# Altium schematic symbol library SN74LS189N.SchLib: 1 symbol
Pins are listed as number, name and electrical type; pins without a type are passive.

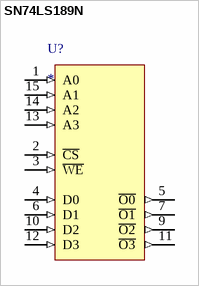
[diagram p0: symbol SN74LS189N]

## SN74LS189N
designator U?
pins: 1 A0 (in), 2 ~{CS} (in), 3 ~{WE} (in), 4 D0 (in), 5 ~{O0} (out), 6 D1 (in), 7 ~{O1} (out), 9 ~{O2} (out), 10 D2 (in), 11 ~{O3} (out), 12 D3 (in), 13 A3 (in), 14 A2 (in), 15 A1 (in)